# Altium integrated library nRF2788_Wireless MIC TX_V_1_0.IntLib: 20 symbols
Pins are listed as number, name and electrical type; pins without a type are passive.

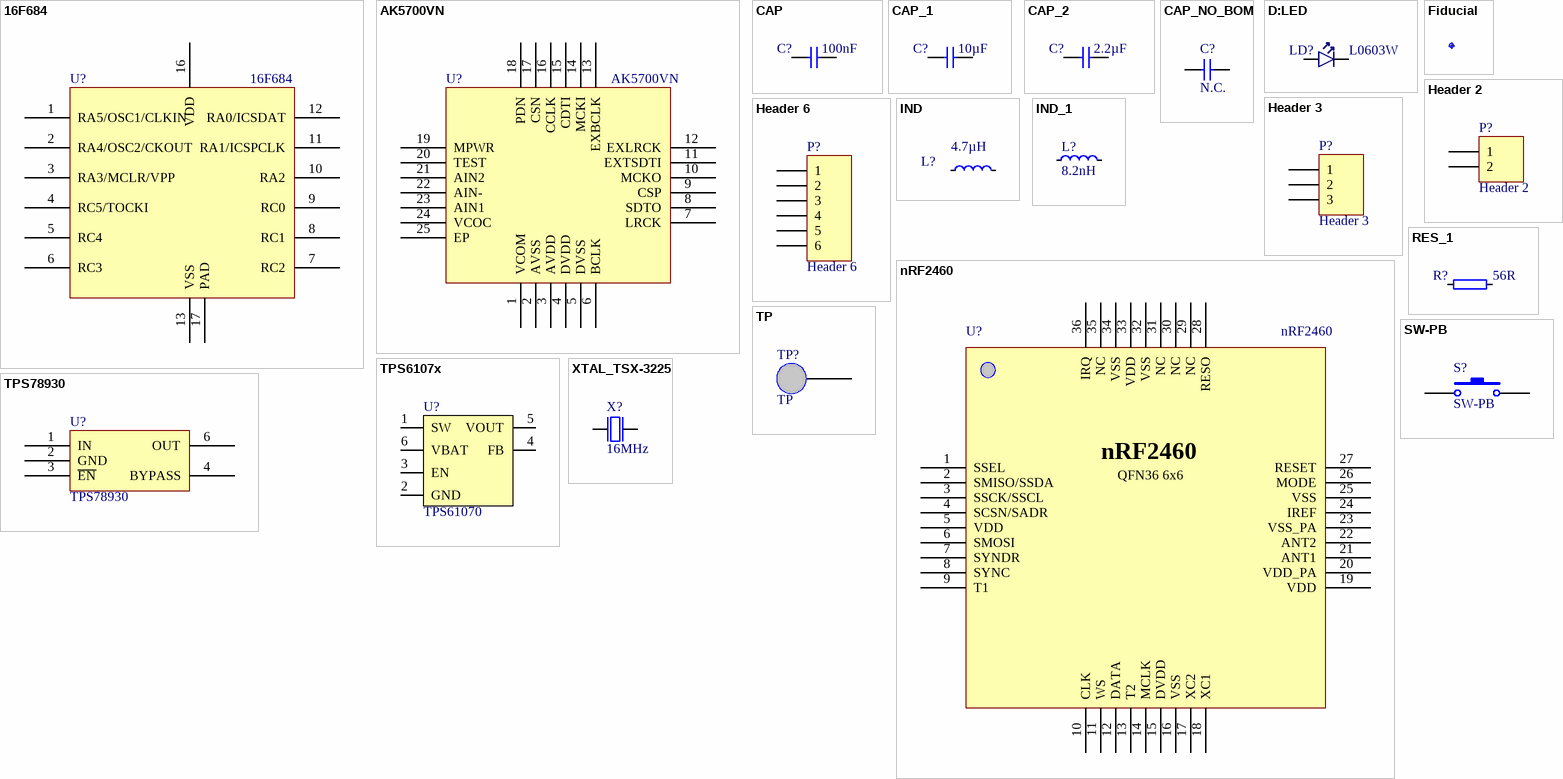
[diagram p0: symbols 16F684 to XTAL_TSX-3225]

## 16F684
designator U?
footprint QFN65P400X400X100-16N (QFN, 16-Leads, Body 4,0x4,0mm (max), Pitch 0,65mm, IPC Medium Density)
pins: 1 RA5/OSC1/CLKIN, 2 RA4/OSC2/CKOUT, 3 RA3/MCLR/VPP, 4 RC5/TOCKI, 5 RC4, 6 RC3, 7 RC2, 8 RC1, 9 RC0, 10 RA2, 11 RA1/ICSPCLK, 12 RA0/ICSDAT, 13 VSS, 14 NC hidden, 15 NC hidden, 16 VDD, 17 PAD

## AK5700VN
designator U?
footprint QFN50P400X400X80-24N (QFN, 24-Leads, Body 4,1x4,1mm (max), Pitch 0,50mm, IPC Medium Density)
pins: 1 VCOM, 2 AVSS (power), 3 AVDD (power), 4 DVDD (power), 5 DVSS (power), 6 BCLK (power), 7 LRCK (power), 8 SDTO, 9 CSP, 10 MCKO, 11 EXTSDTI, 12 EXLRCK, 13 EXBCLK, 14 MCKI, 15 CDTI, 16 CCLK, 17 CSN, 18 PDN, 19 MPWR, 20 TEST, 21 AIN2, 22 AIN-, 23 AIN1, 24 VCOC, 25 EP

## CAP
designator C?, comment 100nF
Chip Cap 0402; Part Number: C0402-100n; Note: Chip Cap 10%; Artikkelnr Noca: 20039200; Manufacturer: *; Manufacturer Part Number: *; Datasheet: *; Footprint: 0402s; LatestRevisionDate: 2009-11-23; Pin Count: 2; Publisher: Nordic Semiconductor; Published: 2009-05-08; Value: 100nF; Supplier: *; Supplier part number: *; 2nd source Supplier: *; 2nd source part number: *
footprint 0402s
pins: 1, 2

## CAP_1
designator C?, comment 10µF
Chip Cap 0805; Part Number: C0805-10µ; Note: Chip Cap 10%; Artikkelnr Noca: 20039243; Manufacturer: *; Manufacturer Part Number: *; Datasheet: *; Footprint: 0805; LatestRevisionDate: 2010-06-03; Pin Count: 2; Publisher: Nordic Semiconductor; Published: 2010-06-03; Value: 10µF; Supplier: *; Supplier part number: *; 2nd source Supplier: *; 2nd source part number: *
footprint 0805
pins: 1, 2

## CAP_2
designator C?, comment 2.2µF
Chip Cap 0603; Part Number: C0603-2µ2; Note: Chip Cap 1%; Artikkelnr Noca: N.A.; Manufacturer: *; Manufacturer Part Number: *; Datasheet: *; Footprint: 0603s; LatestRevisionDate: 2009-05-08; Pin Count: 2; Publisher: Nordic Semiconductor; Published: 2009-05-08; Value: 2.2µF; Supplier: *; Supplier part number: *; 2nd source Supplier: *; 2nd source part number: *
footprint 0603s
pins: 1, 2

## CAP_NO_BOM
designator C?, comment N.C.  (no BOM)
Chip Cap 0402; Part Number: C0402-N.C.; Artikkelnr Noca: N.A.; Manufacturer: *; Manufacturer Part Number: *; Datasheet: *; Footprint: 0402s; LatestRevisionDate: 2009-05-08; Pin Count: 2; Publisher: Nordic Semiconductor; Published: 2009-05-08; Value: N.C.; Note: Chip Cap; Supplier: *; Supplier part number: *; 2nd source Supplier: *; 2nd source part number: *
footprint 0402s
pins: 1, 2

## D:LED
designator LD?, comment L0603W
LED 0603, 19-213/W1D; Manufacturer: Everlight; Note: 45 mcd; Artikkelnr Noca: N.A.; Part Number: 19-213/W1D; Manufacturer Part Number: *; Datasheet: *; Footprint: 0603; LatestRevisionDate: 2009-05-18; Pin Count: 2; Publisher: Nordic Semiconductor; Published: 2009-05-18; Value: L0603W; Supplier: *; Supplier part number: *; 2nd source Supplier: *; 2nd source part number: *
footprint LED_0603
pins: 1 C, 2 A

## Fiducial
designator Fid?, comment Fiducial mark  (value not drawn)
Part Number: Fid-Mark; Artikkelnr Noca: N.A.; Manufacturer: *; Manufacturer Part Number: *; Datasheet: *; Footprint: Fiducial; LatestRevisionDate: 12.12.2009; Pin Count: 1; Publisher: Nordic Semiconductor; Published: 12.12.2009; Value: *; Note: *; Supplier: *; Supplier part number: *; 2nd source Supplier: *; 2nd source part number: *
footprint Fiducial

## Header 2
designator P?
Header, 2-Pin; LatestRevisionDate: 17-Jul-2002; LatestRevisionNote: Re-released for DXP Platform.; Publisher: Altium Limited
footprint HDR1X2 (Connector; Header; 2 Position)
signal-integrity model Connector
pins: 1, 2

## Header 3
designator P?
Header, 3-Pin; LatestRevisionDate: 17-Jul-2002; LatestRevisionNote: Re-released for DXP Platform.; Publisher: Altium Limited
footprint Headphone
signal-integrity model Connector
pins: 1, 2, 3

## Header 6
designator P?
Header, 6-Pin; LatestRevisionDate: 17-Jul-2002; LatestRevisionNote: Re-released for DXP Platform.; Publisher: Altium Limited
footprint HDR1X6 (Connector; Header; 6 Position)
signal-integrity model Connector
pins: 1, 2, 3, 4, 5, 6

## IND
designator L?, comment 4.7µH
Inductor Power 4.7uH 1.2A SMD; Part Number: WE-TPC Type S - 4µ7; Manufacturer: Wurth Elektronik; Manufacturer Part Number: 744031004; 2nd source part number: 732-1008-1-ND; Datasheet: http://www.we-online.de/katalog/media/pdf/744031004.pdf; Footprint: WE-TPC_TYPE_S; LatestRevisionDate: 2010-02-01; Pin Count: 2; Publisher: Nordic Semiconductor; Published: 2010-02-01; Value: 4.7µH; Note: *; Supplier: Farnell; Supplier part number: 163-5834; 2nd source Supplier: Digi-Key; Artikkelnr Noca: *
footprint WE-TPC_TYPE_S
pins: 1, 2

## IND_1
designator L?, comment 8.2nH
Chip Ind 0402; Part Number: L0402-8n2; Manufacturer: Murata; Manufacturer Part Number: LQP15MN8N2B02D; Note: LQP15MN8N2B02D 8.2nH 110mA 0402; Artikkelnr Noca: 33029139; Datasheet: http://search.murata.co.jp/Ceramy/image/img/PDF/ENG/L0075S0084LQP15M.pdf; Footprint: 0402; LatestRevisionDate: 2009-11-23; Pin Count: 2; Publisher: Nordic Semiconductor; Published: 2009-05-08; Value: 8.2nH; Supplier: Digi-Key; Supplier part number: 490-1135-1-ND; 2nd source Supplier: *; 2nd source part number: *
footprint 0402s
pins: 1, 2

## nRF2460
designator U?
2.4GHz Single Chip Wireless Audio Streamer; Manufacturer: Nordic Semiconductor; Note: nRF2460 QFN36; Artikkelnr Noca: N.A.; Part Number: nRF2460; Manufacturer Part Number: nRF2460; Datasheet: *; Footprint: QFN-36; LatestRevisionDate: 2011-03-01; Pin Count: 36; Publisher: Nordic Semiconductor; Published: 2011-03-01; Value: nRF2460; Supplier: Nordic; Supplier part number: *; 2nd source Supplier: *; 2nd source part number: *
footprint Nordic_QFN36
pins: 1 SSEL, 2 SMISO/SSDA, 3 SSCK/SSCL, 4 SCSN/SADR, 5 VDD, 6 SMOSI, 7 SYNDR, 8 SYNC, 9 T1, 10 CLK, 11 WS, 12 DATA, 13 T2, 14 MCLK, 15 DVDD, 16 VSS, 17 XC2, 18 XC1, 19 VDD, 20 VDD_PA, 21 ANT1, 22 ANT2, 23 VSS_PA, 24 IREF, 25 VSS, 26 MODE, 27 RESET, 28 RESO, 29 NC, 30 NC, 31 NC, 32 VSS, 33 VDD, 34 VSS, 35 NC, 36 IRQ
text: QFN36 6x6

## RES_1
designator R?, comment 56R
Chip Res 0402; Part Number: R0402-56R; Note: Chip Res 1%; Artikkelnr Noca: 27049043; Manufacturer: *; Manufacturer Part Number: *; Datasheet: *; Footprint: 0402; LatestRevisionDate: 2009-11-23; Pin Count: 2; Publisher: Nordic Semiconductor; Published: 2009-05-08; Value: 56R; Supplier: *; Supplier part number: *; 2nd source Supplier: *; 2nd source part number: *
footprint 0402s
pins: 1, 2

## SW-PB
designator S?
Switch; Published: 24-Mar-1999; LatestRevisionDate: 17-Jul-2002; LatestRevisionNote: Re-released for DXP Platform.; PackageReference: SPST-2; Publisher: Altium Limited; PackageDescription: Switch; 2 Leads
footprint E-Switch
pins: 1, 2

## TP
designator TP?
footprint TP
pins: 1

## TPS6107x
designator U?, comment TPS61070
IC BOOST CONV 600MA SW TSOT23-6; Manufacturer: Texas Instruments; Manufacturer Part Number: TPS61070DDCR; 2nd source part number: 296-17151-1-ND; Note: Adjustable, 600-mA Switch, 90% Efficient PFM/PWM Boost Converter in ThinSOT-23; Artikkelnr Noca: N.A.; Part Number: TPS61070; Datasheet: http://focus.ti.com/lit/ds/symlink/tps61070.pdf; Footprint: SOT-23-6; LatestRevisionDate: 2010-02-02; Pin Count: 6; Publisher: Nordic Semiconductor; Published: 2010-02-02; Value: TPS61070; Supplier: Farnell; Supplier part number: 1461062; 2nd source Supplier: Digi-Key
footprint SOT95P280X110-6N (Footprint not found)
pins: 1 SW, 2 GND, 3 EN, 4 FB, 5 VOUT, 6 VBAT

## TPS78930
designator U?
footprint SOT95P280X145-6N (SOT23, 6-Leads, Body 3,0x3,0mm (max), Pitch 0,95mm, IPC Medium Density)
pins: 1 IN, 2 GND (power), 3 ~{EN} (power), 4 BYPASS (power), 6 OUT (power)

## XTAL_TSX-3225
designator X?, comment 16MHz
XTAL SMD 16MHz, 9pF, Mercury; Part Number: XTAL SMD 16MHz (3225); Note: XTAL SMD 16MHz 3225; Artikkelnr Noca: 22019087; Manufacturer: *; Manufacturer Part Number: *; Datasheet: http://ndap3-net.ebz.epson.co.jp/w/www/PDFS/epdoc_qd.nsf/85a4e2c523a1f89349257068002f9e30/31e98956c8f991cd4925707c003b38b1/$FILE/FA-238_238V_TSX-3225_E08X.pdf; Footprint: BT-XTAL_3225; LatestRevisionDate: 2010-02-24; Pin Count: 4; Publisher: Nordic Semiconductor; Published: 2009-05-30; Value: 16MHz; Supplier: *; Supplier part number: *; 2nd source Supplier: *; 2nd source part number: *
footprint BT-XTAL_3225
pins: 1 inp, 2 GND hidden to GND, 3 out, 4 GND hidden to GND